# EAGLE library part CON_MIL_6 (library mylib_20130829)
MIL Box Pinheader : 6Pin
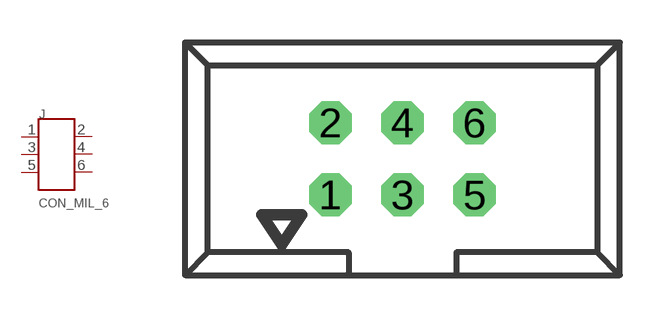
[diagram p27: symbol with the pads of CON_MIL_6; footprint CON_MIL_6]

Designator prefix J

## CON_MIL_6  [CON_MIL_6]
1  1
2  2
3  3
4  4
5  5
6  6

## Footprint CON_MIL_6 (pad centres in mm)
drill 1 octagon: 1 -2.54,-1.27; 2 -2.54,1.27; 3 0,-1.27; 4 0,1.27; 5 2.54,-1.27; 6 2.54,1.27